# Altium footprint library hddr_2x1_0.PcbLib: 1 footprints
Each footprint in its own frame and in the unit in brackets; x right, y up, seen from the top. Pads: shape width x height; smd on the part's side, far side on the other; paste and mask are expansions set on the pad; w line width, h text height; cw(c..) or ccw(c..) is an arc to the next point about the centre after c.
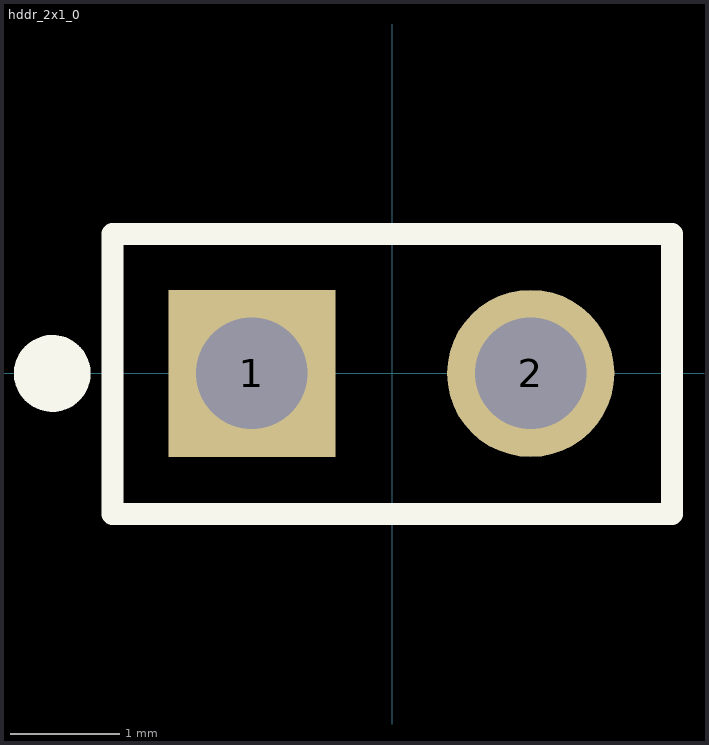
[diagram p0: the footprint, top view; thin cyan lines are the x and y axes]

## hddr_2x1_0 [mil] "0.1\" Header 2x1"
pads (2):
  rect 60x60 hole 40: 1(-50.39,0)
  round 60 hole 40: 2(49.61,0)
Top Overlay:
  circle w15.75: c-122.05,0 r5.91
  lines w7.87: -100.39,-50.39 -100.39,50 100.39,50 100.39,-50.39 -100.39,-50.39
3D body "hddr_male_2x1.SLDPRT": height 336.22, standoff -118.11, extent -100,-50.39 100,49.61